# EAGLE library part CCM03-3504LFT (library PCB_KioskMB_r3.3-05)
CONN SMART CARD FIXED 8PIN SMD
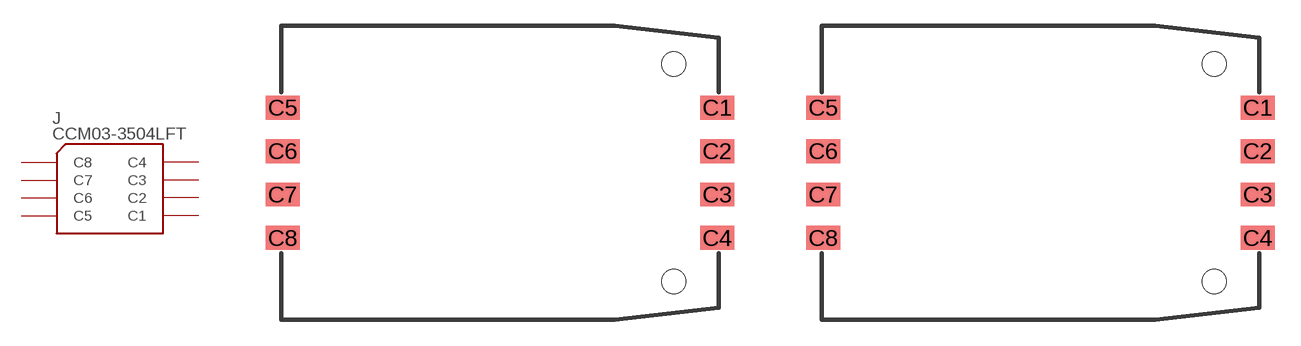
[diagram p4: symbol with the pads of CCM03-3504LFT; footprints CCM03-3504LFT, CCM03-3504LFT-NR]

Designator prefix J

## CCM03-3504LFT  [CCM03-3504LFT]
C1  C1
C2  C2
C3  C3
C4  C4
C5  C5
C6  C6
C7  C7
C8  C8

## CCM03-3504LFT-NR  [CCM03-3504LFT-NR]
Pads as for CCM03-3504LFT

## Footprint CCM03-3504LFT (pad centres in mm)
smd 2 x 1.4: C1 12.7,3.81; C2 12.7,1.27; C3 12.7,-1.27; C4 12.7,-3.81; C5 -12.7,3.81; C6 -12.7,1.27; C7 -12.7,-1.27; C8 -12.7,-3.81
hole 1.422 at 10.16,6.35
hole 1.422 at 10.16,-6.35

## Footprint CCM03-3504LFT-NR (pad centres in mm)
same as CCM03-3504LFT but no restrict on the PCB
smd 2 x 1.4: C1 12.7,3.81; C2 12.7,1.27; C3 12.7,-1.27; C4 12.7,-3.81; C5 -12.7,3.81; C6 -12.7,1.27; C7 -12.7,-1.27; C8 -12.7,-3.81
hole 1.422 at 10.16,6.35
hole 1.422 at 10.16,-6.35